# Altium schematic symbol library Hirose.SchLib: 1 symbol
Pins are listed as number, name and electrical type; pins without a type are passive.

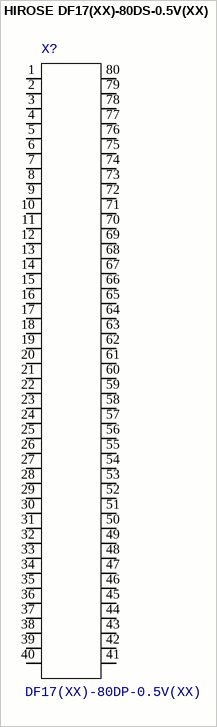
[diagram p0: symbol HIROSE DF17(XX)-80DS-0.5V(XX)]

## HIROSE DF17(XX)-80DS-0.5V(XX)
designator X?, comment DF17(XX)-80DP-0.5V(XX)
Receptable; Manufacturer_Part_Number: DF17(XX)-80DP-0.5V(XX)
footprint DF17(XX)-80DS-0.5V(XX) (Receptable, SMD, 80 Pin, Pitch 0.5)
pins: 1 (power), 2 (power), 3 (power), 4 (power), 5 (power), 6 (power), 7 (power), 8 (power), 9 (power), 10 (power), 11 (power), 12 (power), 13 (power), 14 (power), 15 (power), 16 (power), 17 (power), 18 (power), 19 (power), 20 (power), 21 (power), 22 (power), 23 (power), 24 (power), 25 (power), 26 (power), 27 (power), 28 (power), 29 (power), 30 (power), 31 (power), 32 (power), 33 (power), 34 (power), 35 (power), 36 (power), 37 (power), 38 (power), 39 (power), 40 (power), 41 (power), 42 (power), 43 (power), 44 (power), 45 (power), 46 (power), 47 (power), 48 (power), 49 (power), 50 (power), 51 (power), 52 (power), 53 (power), 54 (power), 55 (power), 56 (power), 57 (power), 58 (power), 59 (power), 60 (power), 61 (power), 62 (power), 63 (power), 64 (power), 65 (power), 66 (power), 67 (power), 68 (power), 69 (power), 70 (power), 71 (power), 72 (power), 73 (power), 74 (power), 75 (power), 76 (power), 77 (power), 78 (power), 79 (power), 80 (power)